# Altium integrated library User Library.IntLib: 46 symbols
Pins are listed as number, name and electrical type; pins without a type are passive.

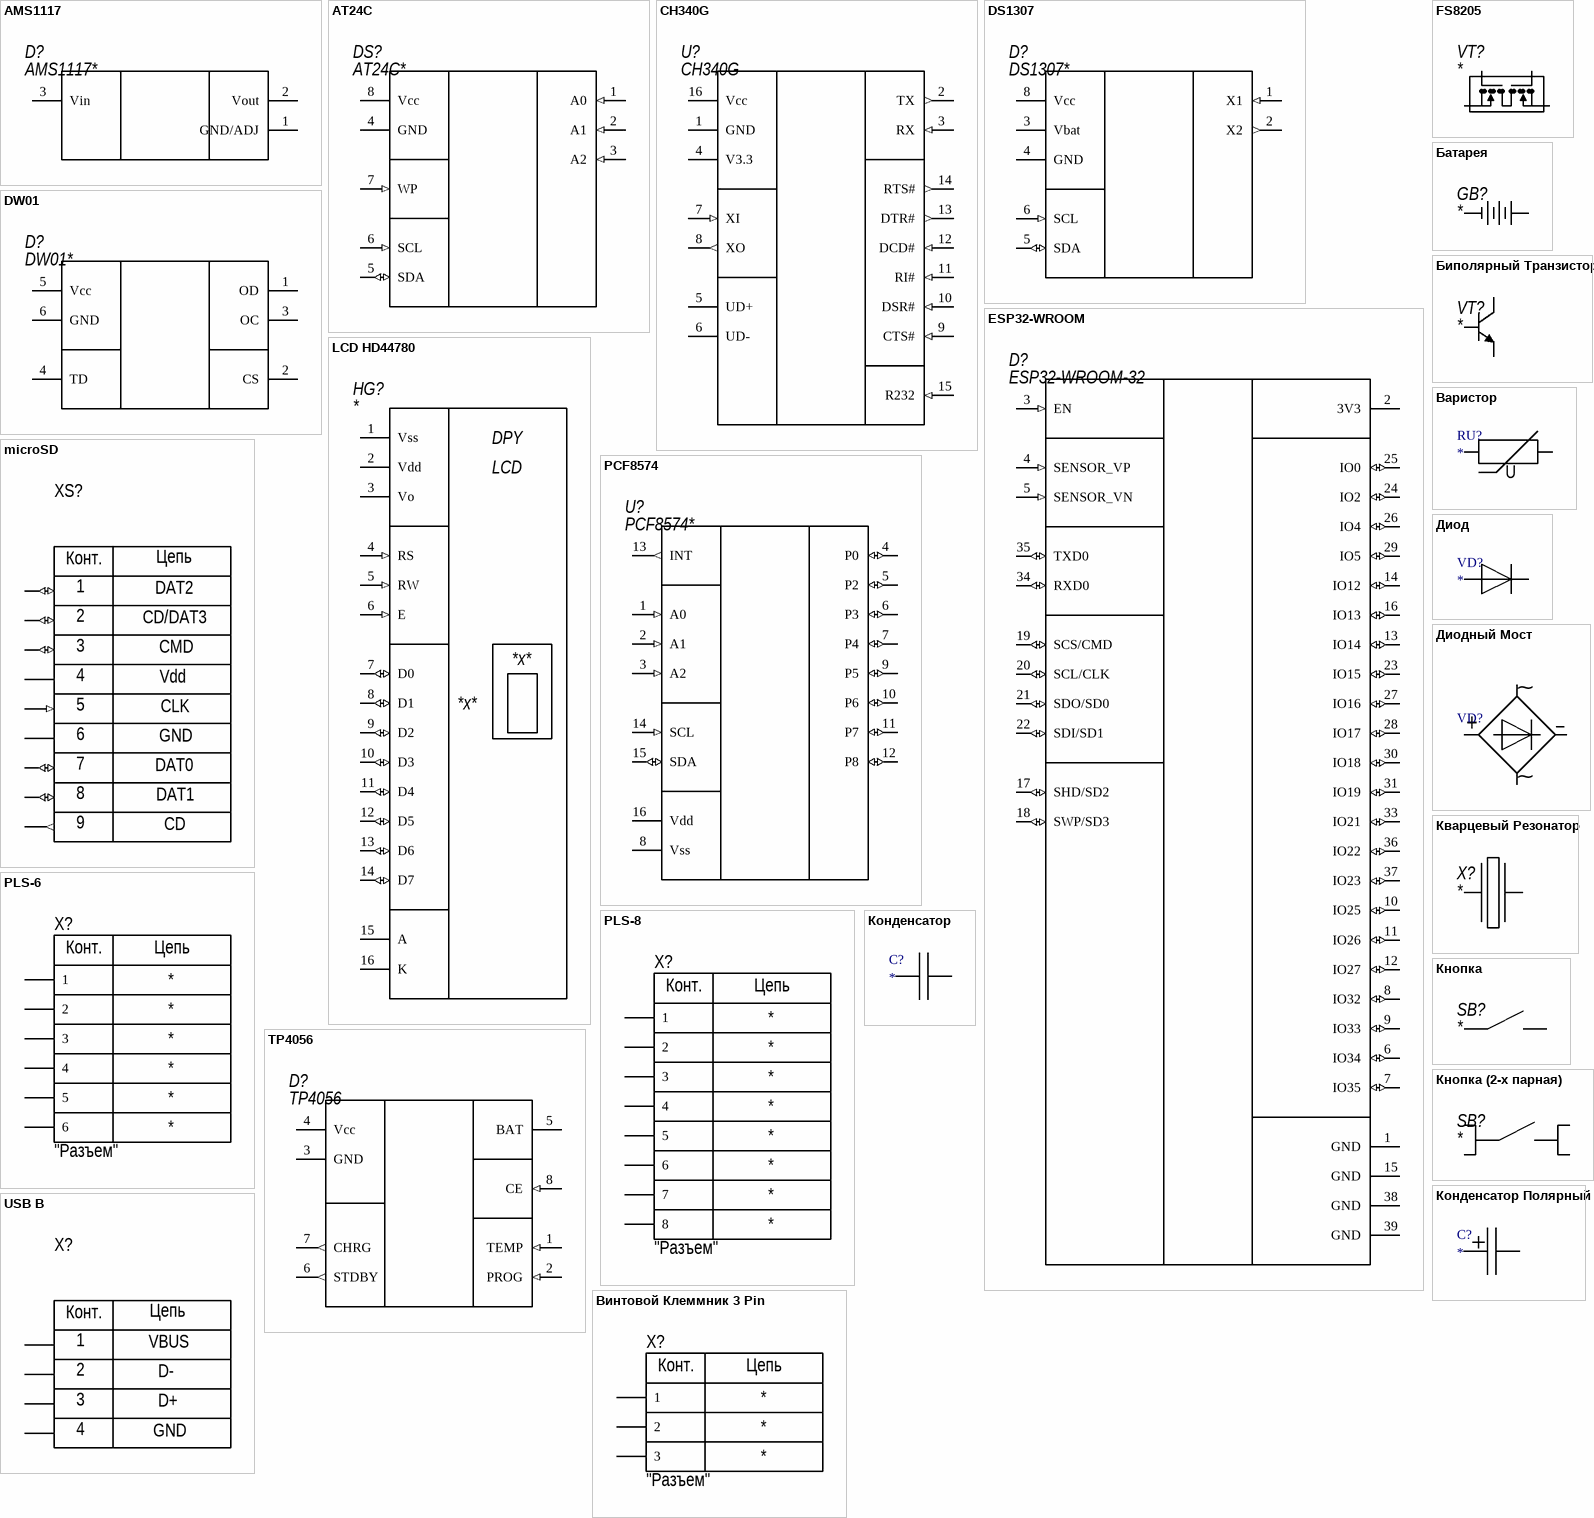
[diagram p0: symbols AMS1117 to Конденсатор Полярный]

## AMS1117
designator D?, comment AMS1117*
Стабилизатор напряжения.; Manufacturer: Advanced Monolithic Systems; Model: AMS1117*; ComponentLink1Description: Datasheet; ComponentLink1URL: http://www.advanced-monolithic.com/pdf/ds1117.pdf; Case: *; Voltage: *; ComponentLink2Description: Store; ComponentLink2URL: *
pins: 1 GND/ADJ, 2 Vout (power), 3 Vin (power)

## AT24C
designator DS?, comment AT24C*
Перезаписываемая постоянная память.; Manufacturer: Atmel; Case: *; Model: AT24C*; Device Revision: *; Memory Size: *; ComponentLink1Description: Datasheet; ComponentLink1URL: http://ww1.microchip.com/downloads/en/devicedoc/atmel-8720-seeprom-at24c512c-datasheet.pdf; ComponentLink2Description: HelpURL; ComponentLink2URL: https://www.microchip.com/wwwproducts/en/AT24C512C; ComponentLink3Description: Store; ComponentLink3URL: *
footprint DIP8
footprint SOIC8
pins: 1 A0 (in) "Установка бита адреса.", 2 A1 (in) "Установка бита адреса.", 3 A2 (in) "Установка бита адреса.", 4 GND (power), 5 SDA (io) "Передача данных по шине IIC.", 6 SCL (in) "Тактирование шины IIC.", 7 WP (in) "Защита от записи, работает при подключении к VCC.", 8 Vcc (power)

## CH340G
designator U?
Преобразователя интерфейса USB в UART.; Manufacturer: Nanjing Qinheng Microelectronics Co. Ltd.; Case: SOP-16; Model: CH340G; ComponentLink1Description: HelpURL; ComponentLink1URL: http://mypractic.ru/mikrosxema-ch340g-preobrazovatel-interfejsa-usb-v-uart-most-usb-uart-xarakteristiki-usloviya-ekspluatacii-tipovye-sxemy-vklyucheniya.html; ComponentLink2Description: Datasheet; ComponentLink2URL: http://www.wch-ic.com/products/CH340.html?from=search&q=eyJpdiI6InNwMEdrWnhCbzlTczZhZUM2cncxVHc9PSIsInZhbHVlIjoia0FTMDlncDFNZ29zQmJ2ZGJZOTBCZz09IiwibWFjIjoiZGE4NTAzZGQ0ZWQzNzFmMTZkZWFhMWYwOTExNzExNWI5YjhlMzUwMjE3NzYxMzc5MWI2ZmFmZTVlMDQ3ZDAwZiJ9; ComponentLink3Description: Store; ComponentLink3URL: *
pins: 1 GND (power) "Земля. Подключается к заземлению шины USB.", 2 TX (out) "Выходной пин для передачи данных по UART.", 3 RX (in) "Входной пин для передачи данных по UART.", 4 V3.3 (power) "Внутренние опорное напряжение 3.3 В. При напряжении питания 5 В, к нему необходимо подключить относительно земли блокировочный конденсатор емкостью 4,7 – 20 нФ.", 5 UD+ "D+ сигнал USB.", 6 UD- "D- сигнал USB.", 7 XI (in) "Вход кварцевого генератора.", 8 XO (out) "Выход кварцевого генератора.", 9 CTS# (in) "CTS сигнал UART.", 10 DSR# (in) "DSR сигнал UART.", 11 RI# (in) "RI сигнал UART.", 12 DCD# (in) "DCD сигнал UART.", 13 DTR# (out) "DTR сигнал UART.", 14 RTS# (out) "RTS сигнал UART.", 15 R232 (in) "Включение инверсии входа RXD. Активный уровень – высокий. Вход имеет внутренний резистор, подключенный к земле.", 16 Vcc (power) "Питание."

## DS1307
designator D?, comment DS1307*
Часы реального времени.; Manufacturer: Dallas Semiconductor; ComponentLink1Description: HelpURL; ComponentLink1URL: *; ComponentLink2Description: Datasheet; ComponentLink2URL: https://www.sparkfun.com/datasheets/Components/DS1307.pdf; Case: *; Model: DS1307*; ComponentLink3Description: Store; ComponentLink3URL: *
footprint DIP8
footprint SOIC8
pins: 1 X1 (in) "Вход для кварцевого резонатора на 37.768 kHz.", 2 X2 (out) "Выход для кварцевого резонатора на 37.768 kHz.", 3 Vbat (power) "Для подключения батарейки.", 4 GND (power) "Земля.", 5 SDA (io) "Передача данных по шине IIC.", 6 SCL (in) "Тактирование шины IIC.", 8 Vcc (power) "Питание микросхемы."

## DW01
designator D?, comment DW01*
Защита для литиевого аккумулятора.; Manufacturer: Shenzhen H&M Semiconductor Co. Ltd.; Case: SOT-23-6; ComponentLink1Description: Datasheet; ComponentLink1URL: http://hmsemi.com/downfile/DW01A.PDF; Model: DW01*; ComponentLink2Description: Store; ComponentLink2URL: *; ComponentLink3Description: HelpURL; ComponentLink3URL: *
pins: 1 OD (power) "MOSFET пин для контроля разрядки.", 2 CS (power) "Для определения тока зарядного устройства.", 3 OC (power) "MOSFET пин для контроля зарядки.", 4 TD (power) ""Тестовый пин для уменьшения время задержки".", 5 Vcc (power) "Питание, подключать через резистор.", 6 GND (power) "Земля"

## ESP32-WROOM
designator D?, comment ESP32-WROOM-32
Manufacturer: Espressif Systems; Model: ESP32-WROOM-32; ComponentLink1Description: Datasheet; ComponentLink1URL: https://www.espressif.com/sites/default/files/documentation/esp32-wroom-32_datasheet_en.pdf; ComponentLink2Description: Store; ComponentLink2URL: *; ComponentLink3Description: HelpURL; ComponentLink3URL: *
pins: 1 GND (power) "Замля", 2 3V3 (power) "Питание", 3 EN (in) "Сигнал включения модуля.", 4 SENSOR_VP (in) "GPIO36, ADC1_CH0, RTC_GPIO0", 5 SENSOR_VN (in) "GPIO39, ADC1_CH3, RTC_GPIO3", 6 IO34 (io) "GPIO34, ADC1_CH6, RTC_GPIO4", 7 IO35 (io) "GPIO35, ADC1_CH7, RTC_GPIO5", 8 IO32 (io) "GPIO32, XTAL_32K_P (32.768 kHz crystal oscillator input), ADC1_CH4,", 9 IO33 (io) "GPIO33, XTAL_32K_N (32.768 kHz crystal oscillator output), ADC1_CH5,", 10 IO25 (io) "GPIO25, DAC_1, ADC2_CH8, RTC_GPIO6, EMAC_RXD0", 11 IO26 (io) "GPIO26, DAC_2, ADC2_CH9, RTC_GPIO7, EMAC_RXD1", 12 IO27 (io) "GPIO27, ADC2_CH7, TOUCH7, RTC_GPIO17, EMAC_RX_DV", 13 IO14 (io) "GPIO14, ADC2_CH6, TOUCH6, RTC_GPIO16, MTMS, HSPICLK, HS2_CLK,", 14 IO12 (io) "GPIO12, ADC2_CH5, TOUCH5, RTC_GPIO15, MTDI, HSPIQ, HS2_DATA2,", 15 GND (power) "Замля", 16 IO13 (io) "GPIO13, ADC2_CH4, TOUCH4, RTC_GPIO14, MTCK, HSPID, HS2_DATA3,", 17 SHD/SD2 (io) "GPIO9, SD_DATA2, SPIHD, HS1_DATA2, U1RXD", 18 SWP/SD3 (io) "GPIO10, SD_DATA3, SPIWP, HS1_DATA3, U1TXD", 19 SCS/CMD (io) "GPIO11, SD_CMD, SPICS0, HS1_CMD, U1RTS", 20 SCL/CLK (io) "GPIO7, SD_DATA0, SPIQ, HS1_DATA0, U2RTS", 21 SDO/SD0 (io) "GPIO7, SD_DATA0, SPIQ, HS1_DATA0, U2RTS", 22 SDI/SD1 (io) "GPIO8, SD_DATA1, SPID, HS1_DATA1, U2CTS", 23 IO15 (io) "GPIO15, ADC2_CH3, TOUCH3, MTDO, HSPICS0, RTC_GPIO13, HS2_CMD,", 24 IO2 (io) "GPIO2, ADC2_CH2, TOUCH2, RTC_GPIO12, HSPIWP, HS2_DATA0,", 25 IO0 (io) "GPIO0, ADC2_CH1, TOUCH1, RTC_GPIO11, CLK_OUT1, EMAC_TX_CLK", 26 IO4 (io) "GPIO4, ADC2_CH0, TOUCH0, RTC_GPIO10, HSPIHD, HS2_DATA1,", 27 IO16 (io) "GPIO16, HS1_DATA4, U2RXD, EMAC_CLK_OUT", 28 IO17 (io) "GPIO17, HS1_DATA5, U2TXD, EMAC_CLK_OUT_180", 29 IO5 (io) "GPIO5, VSPICS0, HS1_DATA6, EMAC_RX_CLK", 30 IO18 (io) "GPIO18, VSPICLK, HS1_DATA7", 31 IO19 (io) "GPIO19, VSPIQ, U0CTS, EMAC_TXD0", 33 IO21 (io) "GPIO21, VSPIHD, EMAC_TX_EN", 34 RXD0 (io) "GPIO3, U0RXD, CLK_OUT2", 35 TXD0 (io) "GPIO1, U0TXD, CLK_OUT3, EMAC_RXD2", 36 IO22 (io) "GPIO22, VSPIWP, U0RTS, EMAC_TXD1", 37 IO23 (io) "GPIO23, VSPID, HS1_STROBE", 38 GND (power) "Замля", 39 GND (power) "Замля"

## FS8205
designator VT?
Транзисторная сборка. Если корпус SOIC-8, то смотри подробное условное обозначение. Пины 2 и 5 находятся по середине, в внутренней схеме они соеденины.; Manufacturer: Fortune Semiconductor Corp.; Model: *; Case: *; ComponentLink1Description: Datasheet; ComponentLink1URL: https://www.ic-fortune.com/upload/Download/FS8205A-DS-12_EN.pdf; ComponentLink2Description: Detailed symbol; ComponentLink2URL: https://go-radio.ru/images/8205a.png; ComponentLink3Description: Store; ComponentLink3URL: *; ComponentLink4Description: HelpURL; ComponentLink4URL: *
pins: 1 S1 (oe) "Исток 1 транзистора.", 2 D1 (oc) "Сток первого транзистора.", 3 S2 (oe) "Исток второго транзистора.", 4 G2 "Затвор второго транзистора", 5 D2 (oc) "Сток второго транзистора.", 6 G1 "Затвор 1 транзистора."

## LCD HD44780
designator HG?
Дисплей на основе контроллера HD44780.; ScreenResolution: *x*; Model: *; Manufacturer: *; CharacterResolution: *x*; Type: LCD; ComponentLink1Description: Store; ComponentLink1URL: *; ComponentLink2Description: Datasheet; ComponentLink2URL: *; ComponentLink3Description: HelpURL; ComponentLink3URL: *
pins: 1 Vss (power), 2 Vdd (power), 3 Vo (power) "Напряжение контрастности.", 4 RS (in) "Переключение между режимом приёма команд (0) и приёмом данных (1).", 5 RW (in) "Переключение режимов передачи и приёма.", 6 E (in) "Линия сихронизации.", 7 D0 (io) "Шина данных.", 8 D1 (io) "Шина данных.", 9 D2 (io) "Шина данных.", 10 D3 (io) "Шина данных.", 11 D4 (io) "Шина данных.", 12 D5 (io) "Шина данных.", 13 D6 (io) "Шина данных.", 14 D7 (io) "Шина данных.", 15 A (power) "Анод подсветки.", 16 K (power) "Катод подсветки."
text: DPY

## microSD
designator XS?  (value not drawn)
Слот для карты памяти.; Manufacturer: Molex; TypeConnector: microSD; Model: *; ComponentLink1Description: Store; ComponentLink1URL: *; ComponentLink2Description: Datasheet; ComponentLink2URL: *; ComponentLink3Description: HelpURL; ComponentLink3URL: https://kicad-info.s3-us-west-2.amazonaws.com/original/2X/8/8d1dbfabaa90b65dad4965a185d7e55230d35003.png
pins: 1 DAT2 (io) "Линия данных.", 2 CD/DAT3 (io) "Обноружение карты/Линия данных.", 3 CMD (io) "Команда/Ответ", 4 Vdd (power) "Питание", 4 CD (out) "Обнаружение карты.", 5 CLK (in) "Тактовый сигнал.", 6 GND (power) "Земля.", 7 DATA0 (io) "Линия данных.", 8 DATA1 (io) "Линия данных."
text: Конт.; Цепь; DAT0; DAT1; 9

## PCF8574
designator U?, comment PCF8574*
IIC расширитель.; Model: PCF8574*; Manufacturer: *; Case: *; ComponentLink1Description: Datasheet №1; ComponentLink1URL: https://www.nxp.com/docs/en/data-sheet/PCF8574_PCF8574A.pdf; ComponentLink2Description: Datasheet №2; ComponentLink2URL: http://www.ti.com/lit/ds/symlink/pcf8574.pdf; ComponentLink3Description: HelpURL; ComponentLink3URL: *; ComponentLink4Description: Store; ComponentLink4URL: *
pins: 1 A0 (in) "Установка бита адреса.", 2 A1 (in) "Установка бита адреса.", 3 A2 (in) "Установка бита адреса.", 4 P0 (io), 5 P2 (io), 6 P3 (io), 7 P4 (io), 8 Vss (power) "Земля.", 9 P5 (io), 10 P6 (io), 11 P7 (io), 12 P8 (io), 13 INT (out) "Инварсионный вывод прерывания.", 14 SCL (in) "Тактирование шины IIC.", 15 SDA (io) "Передача данных по шине IIC.", 16 Vdd (power) "Питание."

## PLS-6
designator X?  CommentText: "Разъем"  (hidden comment: PLS-6)
Manufacturer: Connfly; TypeConnector: Connector; VoltageMax: 500VAC; Pitch: 2.54mm; CurrentMax: 3A; Multichannel: 6pin; Model: PLS-6; ComponentLink1Description: Store; ComponentLink1URL: *; Text6: *; Text5: *; Text4: *; Text3: *; Text1: *; Text2: *
footprint CON: PLS-6
pins: 1, 2, 3 (power), 4 (power), 5 (power), 6 (power)
text: Конт.; Цепь

## PLS-8
designator X?  CommentText: "Разъем"  (hidden comment: PLS-8)
TypeConnector: Connector; VoltageMax: 500VAC; Pitch: 2.54mm; CurrentMax: 3A; Multichannel: 8pin; Manufacturer: *; Model: PLS-8; ComponentLink1Description: Store; ComponentLink1URL: *; Text8: *; Text7: *; Text6: *; Text5: *; Text4: *; Text3: *; Text2: *; Text1: *
footprint CON: PLS-8 (PLS-40 8 pin header)
pins: 1, 2, 3 (power), 4 (power), 5 (power), 6 (power), 7 (power), 8 (power)
text: Конт.; Цепь

## TP4056
designator D?
Контроллер зарядки батарейки.; Manufacturer: NanJing Top Power ASIC Corp.; Case: SOP-8; ComponentLink1Description: Datasheet; ComponentLink1URL: https://static.chipdip.ru/lib/977/DOC002977110.pdf; Model: TP4056; ComponentLink2Description: Store; ComponentLink2URL: *; ComponentLink3Description: HelpURL; ComponentLink3URL: *
pins: 1 TEMP (in) "Датчик температуры. Если напряжение выше 85% или ниже 45% от Vcc - отключение от заряда. Для отключения пина, его надо подключить к земле.", 2 PROG (in) "Настройка силы тока, путём подбора резистора подключённого к земле.", 3 GND (power), 4 Vcc (power), 5 BAT (power) "Плюс для подлкючения батареи.", 6 STDBY (out) "Индикатор прекращения заряда.", 7 CHRG (out) "Индикатор зарядки.", 8 CE (in) "Режим работы"

## USB B
designator X?  (value not drawn)
Manufacturer: Molex; TypeConnector: USB B; Model: *; ComponentLink1Description: Store; ComponentLink1URL: *; ComponentLink2Description: Datasheet; ComponentLink2URL: *; ComponentLink3Description: HelpURL; ComponentLink3URL: *
pins: 1 VBUS (power), 2 D-, 3 D-, 4 GND (power)
text: Конт.; Цепь; D+

## Батарея
designator GB?
Voltage: *; Case: *; Model: *; Manufacturer: *; Capacity: *; ComponentLink1Description: Store; ComponentLink1URL: *; ComponentLink2Description: HelpURL; ComponentLink2URL: *; ComponentLink3Description: Datasheet; ComponentLink3URL: *
pins: 1 (power), 2 (power)

## Биполярный Транзистор
designator VT?
Model: *; Manufacturer: *; Case: *; ComponentLink1Description: Datasheet; ComponentLink1URL: *; ComponentLink2Description: HelpURL; ComponentLink2URL: *; ComponentLink3Description: Store; ComponentLink3URL: *
pins: 1 B, 2 E (oe), 3 C (oc)

## Варистор
designator RU?
Case: *; Manufacturer: *; Model: *; ComponentLink1Description: Datasheet; ComponentLink1URL: *; ComponentLink2Description: HelpURL; ComponentLink2URL: *; Value: *; Power: *; ComponentLink3Description: Store; ComponentLink3URL: *
pins: 1 (power), 2 (power)
text: U

## Винтовой Клеммник 3 Pin
designator X?  CommentText: "Разъем"
TypeConnector: Terminal connector; VoltageMax: 300VAC; Pitch: 3.5mm; CurrentMax: 10A; Multichannel: 3pin; Manufacturer: *; Text3: *; Text2: *; Text1: *
footprint CON: DG350-3.5-03P
pins: 1, 2, 3 (power)
text: Конт.; Цепь

## Диод
designator VD?
Case: *; Manufacturer: *; Model: *; ComponentLink1Description: Datasheet; ComponentLink1URL: *; ComponentLink2Description: HelpURL; ComponentLink2URL: *; ComponentLink3Description: Store; ComponentLink3URL: *
pins: 1 (power), 2 (power)

## Диодный Мост
designator VD?  (value not drawn)
Case: *; Manufacturer: *; Model: *; ComponentLink1Description: Datasheet; ComponentLink1URL: *; ComponentLink2Description: HelpURL; ComponentLink2URL: *; ComponentLink3Description: Store; ComponentLink3URL: *
pins: 1 + (power), 2 ⁓ (power), 3 ⁓ (power), 4 - (power)
text: –

## Кварцевый Резонатор
designator X?
Case: *; Model: *; Manufacturer: *; Frequency: *; ComponentLink1Description: Store; ComponentLink1URL: *; ComponentLink2Description: Datasheet; ComponentLink2URL: *; ComponentLink3Description: HelpURL; ComponentLink3URL: *
pins: 1 (power), 2 (power)

## Кнопка
designator SB?
ComponentLink1Description: Store; ComponentLink1URL: *; ComponentLink2Description: Datasheet; ComponentLink2URL: *; ComponentLink3Description: HelpURL; ComponentLink3URL: *; Model: *; Size: *; Manufacturer: *
pins: 1, 2

## Кнопка (2-х парная)
designator SB?
ComponentLink1Description: Store; ComponentLink1URL: *; ComponentLink2Description: Datasheet; ComponentLink2URL: *; ComponentLink3Description: HelpURL; ComponentLink3URL: *; Model: *; Size: *; Manufacturer: *
pins: 1, 2, 3, 4

## Конденсатор
designator С?
Case: *; Manufacturer: *; Model: *; ComponentLink1Description: Datasheet; ComponentLink1URL: *; ComponentLink2Description: HelpURL; ComponentLink2URL: *; Value: *; Voltage: *; ComponentLink3Description: Store; ComponentLink3URL: *
pins: 1 (power), 2 (power)

## Конденсатор Полярный
designator С?
Case: *; Manufacturer: *; Model: *; ComponentLink1Description: Datasheet; ComponentLink1URL: *; ComponentLink2Description: HelpURL; ComponentLink2URL: *; Value: *; Voltage: *; ComponentLink3Description: Store; ComponentLink3URL: *
pins: 1 (power), 2 (power)

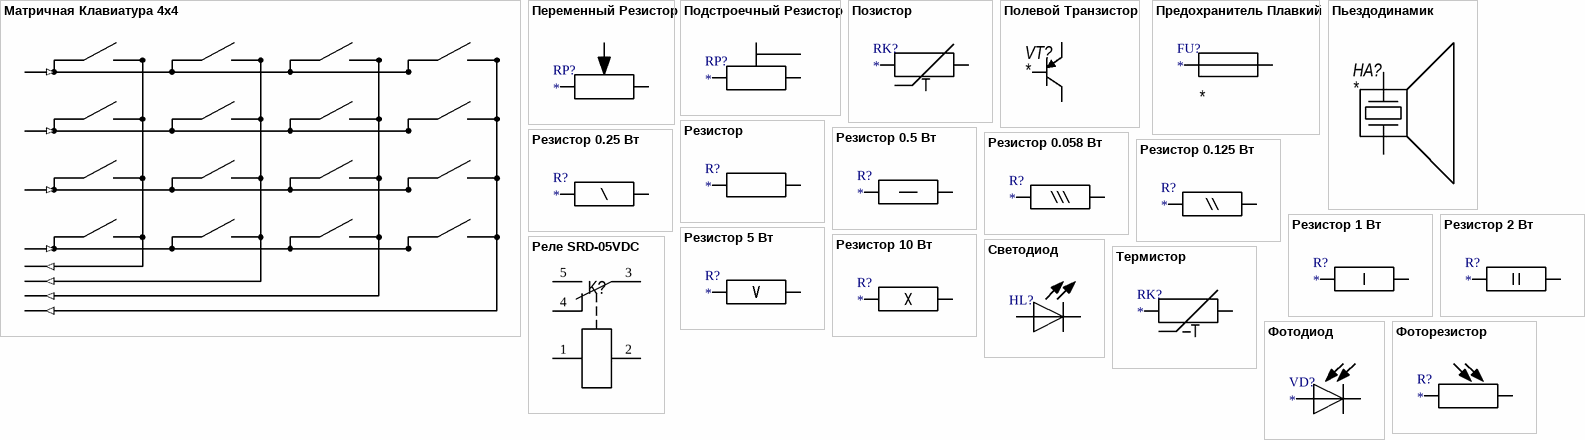
[diagram p1: symbols Матричная Клавиатура 4x4 to Фоторезистор]

## Матричная Клавиатура 4x4
designator SB?  (value not drawn)
pins: 1 (in), 2 (in), 3 (in), 4 (in), 5 (out), 6 (out), 7 (out), 8 (out)

## Переменный Резистор
designator RP?
Case: *; Manufacturer: *; Model: *; ComponentLink1Description: Datasheet; ComponentLink1URL: *; ComponentLink2Description: HelpURL; ComponentLink2URL: *; Value: *; Power: *; ComponentLink3Description: Store; ComponentLink3URL: *
pins: 1 (power), 2 (power), 3 (power)

## Подстроечный Резистор
designator RP?
Case: *; Manufacturer: *; Model: *; ComponentLink1Description: Datasheet; ComponentLink1URL: *; ComponentLink2Description: HelpURL; ComponentLink2URL: *; Value: *; Power: *; ComponentLink3Description: Store; ComponentLink3URL: *
pins: 1 (power), 2 (power), 3 (power)

## Позистор
designator RK?
Case: *; Manufacturer: *; Model: *; ComponentLink1Description: Datasheet; ComponentLink1URL: *; ComponentLink2Description: HelpURL; ComponentLink2URL: *; Value: *; Power: *; ComponentLink3Description: Store; ComponentLink3URL: *
pins: 1 (power), 2 (power)
text: T

## Полевой Транзистор
designator VT?
Model: *; Manufacturer: *; Case: *; ComponentLink1Description: Store; ComponentLink1URL: *; ComponentLink2Description: Datasheet; ComponentLink2URL: *
pins: 1 B, 2 E (oe), 3 C (oc)

## Предохранитель Плавкий
designator FU?
Case: *; Manufacturer: *; Model: *; ComponentLink1Description: Datasheet; ComponentLink1URL: *; ComponentLink2Description: HelpURL; ComponentLink2URL: *; Value: *; ComponentLink3Description: Store; ComponentLink3URL: *; Voltage: *
pins: 1 (power), 2 (power)

## Пьездодинамик
designator HA?
Model: *; Manufacturer: *; Diameter: *; Voltage: *; ComponentLink1Description: Datasheet; ComponentLink1URL: *; ComponentLink2Description: Store; ComponentLink2URL: *
pins: 1, 2

## Резистор
designator R?
Case: *; Manufacturer: *; Model: *; ComponentLink1Description: Datasheet; ComponentLink1URL: *; ComponentLink2Description: HelpURL; ComponentLink2URL: *; Value: *; Power: *; ComponentLink3Description: Store; ComponentLink3URL: *
footprint R0402
pins: 1 (power), 2 (power)

## Резистор 0.5 Вт
designator R?
Power: 0.5; Case: *; Manufacturer: *; Model: *; ComponentLink1Description: Datasheet; ComponentLink1URL: *; ComponentLink2Description: HelpURL; ComponentLink2URL: *; Value: *; ComponentLink3Description: Store; ComponentLink3URL: *
pins: 1 (power), 2 (power)

## Резистор 0.25 Вт
designator R?
Power: 0.25; Case: *; Manufacturer: *; Model: *; ComponentLink1Description: Datasheet; ComponentLink1URL: *; ComponentLink2Description: HelpURL; ComponentLink2URL: *; Value: *; ComponentLink3Description: Store; ComponentLink3URL: *
pins: 1 (power), 2 (power)

## Резистор 0.058 Вт
designator R?
Power: 0.058; Case: *; Manufacturer: *; Model: *; ComponentLink1Description: Datasheet; ComponentLink1URL: *; ComponentLink2Description: HelpURL; ComponentLink2URL: *; Value: *; ComponentLink3Description: Store; ComponentLink3URL: *
pins: 1 (power), 2 (power)

## Резистор 0.125 Вт
designator R?
Power: 0.125; Case: *; Manufacturer: *; Model: *; ComponentLink1Description: Datasheet; ComponentLink1URL: *; ComponentLink2Description: HelpURL; ComponentLink2URL: *; Value: *; ComponentLink3Description: Store; ComponentLink3URL: *
pins: 1 (power), 2 (power)

## Резистор 1 Вт
designator R?
Power: 1; Case: *; Manufacturer: *; Model: *; ComponentLink1Description: Datasheet; ComponentLink1URL: *; ComponentLink2Description: HelpURL; ComponentLink2URL: *; Value: *; ComponentLink3Description: Store; ComponentLink3URL: *
pins: 1 (power), 2 (power)

## Резистор 2 Вт
designator R?
Power: 1; Case: *; Manufacturer: *; Model: *; ComponentLink1Description: Datasheet; ComponentLink1URL: *; ComponentLink2Description: HelpURL; ComponentLink2URL: *; Value: *; ComponentLink3Description: Store; ComponentLink3URL: *
pins: 1 (power), 2 (power)

## Резистор 5 Вт
designator R?
Power: 5; Case: *; Manufacturer: *; Model: *; ComponentLink1Description: Datasheet; ComponentLink1URL: *; ComponentLink2Description: HelpURL; ComponentLink2URL: *; Value: *; ComponentLink3Description: Store; ComponentLink3URL: *
pins: 1 (power), 2 (power)

## Резистор 10 Вт
designator R?
Power: 10; Case: *; Manufacturer: *; Model: *; ComponentLink1Description: Datasheet; ComponentLink1URL: *; ComponentLink2Description: HelpURL; ComponentLink2URL: *; Value: *; ComponentLink3Description: Store; ComponentLink3URL: *
pins: 1 (power), 2 (power)

## Реле SRD-05VDC
designator K?, comment SRA-05VDC-CL  (value not drawn)
Manufacturer: Ningbo Songle; TypeRelay: Electromechanics relay; VoltageMax: 250VAC; VoltageControlCoil: 5VDC; MaxCurrent: 20A; Temperature: -40...+85°C; Model: SRA-05VDC-CL; ComponentLink1Description: Store; ComponentLink1URL: *; ComponentLink2Description: Datasheet; ComponentLink2URL: https://www.circuitbasics.com/wp-content/uploads/2015/11/SRD-05VDC-SL-C-Datasheet.pdf; ComponentLink3Description: HelpURL; ComponentLink3URL: *
footprint REL: SRD-03VDC
pins: 1, 2, 3, 4, 5

## Светодиод
designator HL?  (value not drawn)
Case: *; Manufacturer: *; Model: *; ComponentLink1Description: Datasheet; ComponentLink1URL: *; ComponentLink2Description: HelpURL; ComponentLink2URL: *; Color: *; ComponentLink3Description: Store; ComponentLink3URL: *
pins: 1 (power), 2 (power)

## Термистор
designator RK?
Case: *; Manufacturer: *; Model: *; ComponentLink1Description: Datasheet; ComponentLink1URL: *; ComponentLink2Description: HelpURL; ComponentLink2URL: *; Value: *; Power: *; ComponentLink3Description: Store; ComponentLink3URL: *
pins: 1 (power), 2 (power)
text: –T

## Фотодиод
designator VD?
Case: *; Manufacturer: *; Model: *; ComponentLink1Description: Datasheet; ComponentLink1URL: *; ComponentLink2Description: HelpURL; ComponentLink2URL: *; ComponentLink3Description: Store; ComponentLink3URL: *
pins: 1 (power), 2 (power)

## Фоторезистор
designator R?
Case: *; Manufacturer: *; Model: *; ComponentLink1Description: Datasheet; ComponentLink1URL: *; ComponentLink2Description: HelpURL; ComponentLink2URL: *; Value: *; Power: *; ComponentLink3Description: Store; ComponentLink3URL: *
pins: 1 (power), 2 (power)